# Altium schematic symbol library Schlib1.SchLib: 3 symbols
Pins are listed as number, name and electrical type; pins without a type are passive.

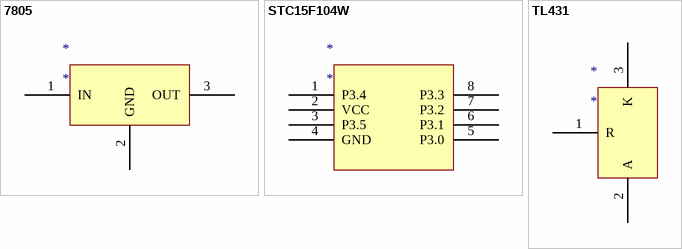
[diagram p0: symbols 7805 to TL431]

## 7805
designator *
pins: 1 IN, 2 GND, 3 OUT

## STC15F104W
designator *
pins: 1 P3.4, 2 VCC, 3 P3.5, 4 GND, 5 P3.0, 6 P3.1, 7 P3.2, 8 P3.3

## TL431
designator *
pins: 1 R, 2 A, 3 K